# Altium footprint library Lib.PcbLib: 22 footprints (part 2 of 2)
Each footprint in its own frame and in the unit in brackets; x right, y up, seen from the top. Pads: shape width x height; smd on the part's side, far side on the other; paste and mask are expansions set on the pad; w line width, h text height; cw(c..) or ccw(c..) is an arc to the next point about the centre after c.
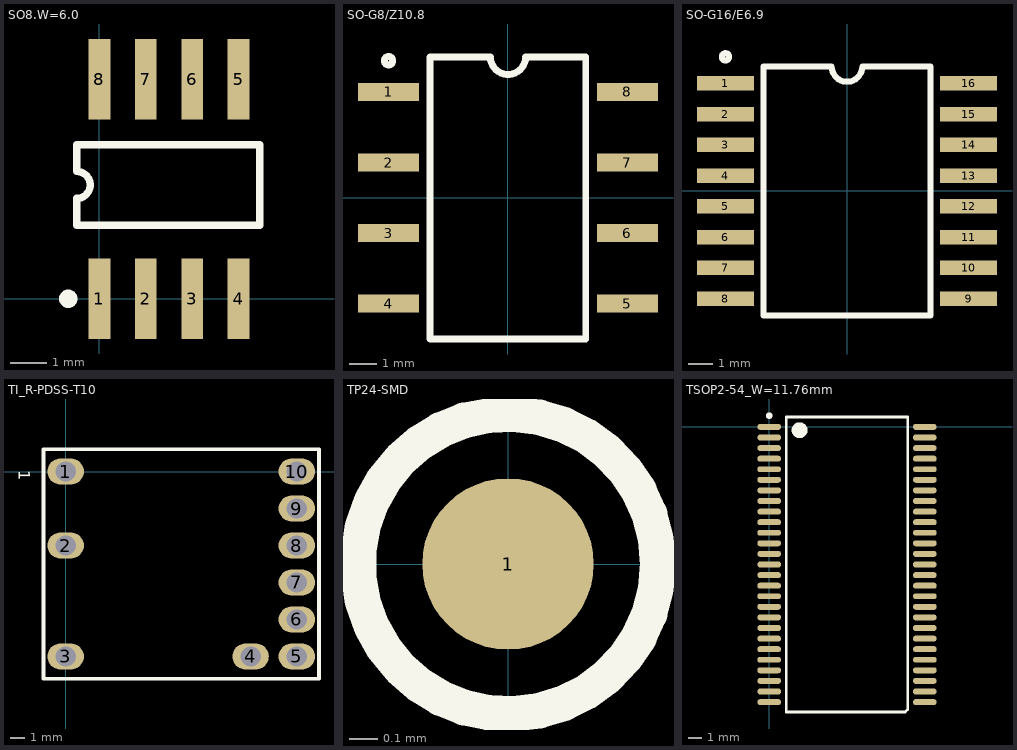
[diagram p1: the footprints below, top view; thin cyan lines are the x and y axes]

## SO8.W=6.0 [mm]
pads (8):
  rect 0.6x2.2 smd: 1(0,0) 2(1.27,0) 3(2.54,0) 4(3.81,0) 5(3.81,6) 6(2.54,6) 7(1.27,6) 8(0,6)
Top Overlay:
  circle w0.25: c-0.85,0 r0.125
  lines w0.2: -0.615,2.01 -0.615,2.743 ccw(c-0.615,3.11) -0.615,3.477 -0.615,4.21 4.385,4.21 4.385,2.01 -0.615,2.01

## SO-G8/Z10.8 [mm]
pads (8):
  rect 2.2x0.65 smd: 1(-4.294,3.81) 2(-4.294,1.27) 3(-4.294,-1.27) 4(-4.294,-3.81) 5(4.306,-3.81) 6(4.306,-1.27) 7(4.306,1.27) 8(4.306,3.81)
Top Overlay:
  circle w0.25: c-4.294,4.935 r0.15
  lines w0.25: -2.794,-5.075 2.806,-5.075 2.806,5.075 0.641,5.075 cw(c0.006,5.075) -0.629,5.075 -2.794,5.075 -2.794,-5.075

## SO-G16/E6.9 [mm]
pads (16):
  rect 2.35x0.6 smd: 1(-5.025,4.445) 2(-5.025,3.175) 3(-5.025,1.905) 4(-5.025,0.635) 5(-5.025,-0.635) 6(-5.025,-1.905) 7(-5.025,-3.175) 8(-5.025,-4.445) 9(5.025,-4.445) 10(5.025,-3.175) 11(5.025,-1.905) 12(5.025,-0.635) 13(5.025,0.635) 14(5.025,1.905) 15(5.025,3.175) 16(5.025,4.445)
Top Overlay:
  circle w0.25: c-5.025,5.545 r0.15
  lines w0.25: -3.45,-5.15 3.45,-5.15 3.45,5.15 0.635,5.15 cw(c0,5.15) -0.635,5.15 -3.45,5.15 -3.45,-5.15

## TI_R-PDSS-T10 [mm]
pads (10):
  oval 2.5x1.8 hole 1.4: 1(0,0) 2(0,-5.08) 3(0,-12.7) 4(12.7,-12.7) 5(15.875,-12.7) 6(15.875,-10.16) 7(15.875,-7.62) 8(15.875,-5.08) 9(15.875,-2.54) 10(15.875,0)
Top Overlay:
  lines w0.254: 17.272,-14.224 -1.524,-14.224 -1.524,1.524 17.399,1.524 17.399,-14.224
  text "1" at -3.206,0.084 h0.81

## TP24-SMD [mil]
pads (1):
  round 24 smd: 1(0,0)
Top Overlay:
  circle w5: c0,0 r21

## TSOP2-54_W=11.76mm [mm]
pads (54):
  oval 1.8x0.45 smd: 1(0,0) 2(0,-0.8) 3(0,-1.6) 4(0,-2.4) 5(0,-3.2) 6(0,-4) 7(0,-4.8) 8(0,-5.6) 9(0,-6.4) 10(0,-7.2) 11(0,-8) 12(0,-8.8) 13(0,-9.6) 14(0,-10.4) 15(0,-11.2) 16(0,-12) 17(0,-12.8) 18(0,-13.6) 19(0,-14.4) 20(0,-15.2) 21(0,-16) 22(0,-16.8) 23(0,-17.6) 24(0,-18.4) 25(0,-19.2) 26(0,-20) 27(0,-20.8) 28(11.76,-20.8) 29(11.76,-20) 30(11.76,-19.2) 31(11.76,-18.4) 32(11.76,-17.6) 33(11.76,-16.8) 34(11.76,-16) 35(11.76,-15.2) 36(11.76,-14.4) 37(11.76,-13.6) 38(11.76,-12.8) 39(11.76,-12) 40(11.76,-11.2) 41(11.76,-10.4) 42(11.76,-9.6) 43(11.76,-8.8) 44(11.76,-8) 45(11.76,-7.2) 46(11.76,-6.4) 47(11.76,-5.6) 48(11.76,-4.8) 49(11.76,-4) 50(11.76,-3.2) 51(11.76,-2.4) 52(11.76,-1.6) 53(11.76,-0.8) 54(11.76,0)
Top Overlay:
  circle w0.25: c0,0.85 r0.125
  circle w0.6: c2.3,-0.25 r0.3
  lines w0.2: 10.35,0.75 1.3,0.75 1.3,-21.55 10.28,-21.55 10.46,-21.37 10.46,0.75